# Altium footprint library SMD_Headers.PcbLib: 5 footprints
Each footprint in its own frame and in the unit in brackets; x right, y up, seen from the top. Pads: shape width x height; smd on the part's side, far side on the other; paste and mask are expansions set on the pad; w line width, h text height; cw(c..) or ccw(c..) is an arc to the next point about the centre after c.
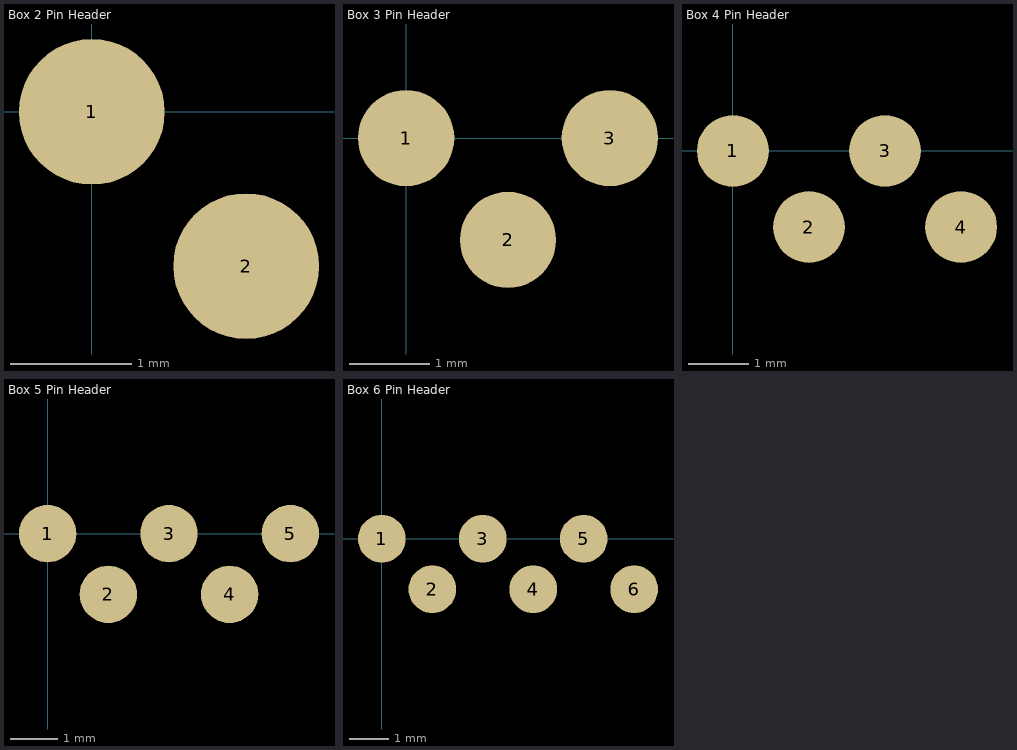
[diagram p0: the footprints below, top view; thin cyan lines are the x and y axes]

## Box 2 Pin Header [mm]
pads (2):
  round 1.2 smd: 1(0,0) 2(1.27,-1.27)

## Box 3 Pin Header [mm]
pads (3):
  round 1.2 smd: 1(0,0) 2(1.27,-1.27) 3(2.54,0)

## Box 4 Pin Header [mm]
pads (4):
  round 1.2 smd: 1(0,0) 2(1.27,-1.27) 3(2.54,0) 4(3.81,-1.27)

## Box 5 Pin Header [mm]
pads (5):
  round 1.2 smd: 1(0,0) 2(1.27,-1.27) 3(2.54,0) 4(3.81,-1.27) 5(5.08,0)

## Box 6 Pin Header [mm]
pads (6):
  round 1.2 smd: 1(0,0) 2(1.27,-1.27) 3(2.54,0) 4(3.81,-1.27) 5(5.08,0) 6(6.35,-1.27)